# Altium footprint library LCCC.PcbLib: 1 footprints
Each footprint in its own frame and in the unit in brackets; x right, y up, seen from the top. Pads: shape width x height; smd on the part's side, far side on the other; paste and mask are expansions set on the pad; w line width, h text height; cw(c..) or ccw(c..) is an arc to the next point about the centre after c.
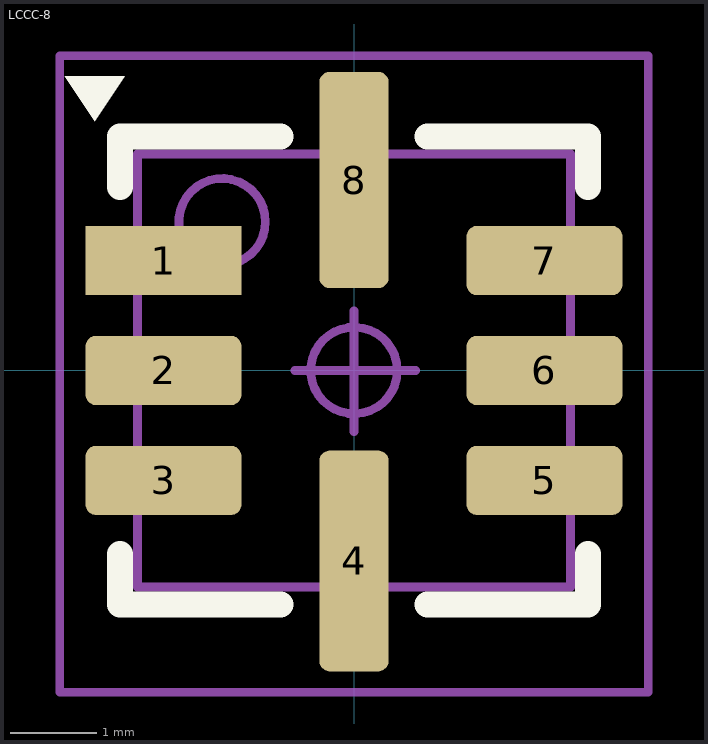
[diagram p0: the footprint, top view; thin cyan lines are the x and y axes]

## LCCC-8 [mm]
height 1.6
pads (8):
  rect 1.8x0.8 smd: 1(-2.2,1.27)
  rrect30% 1.8x0.8 smd: 2(-2.2,0) 3(-2.2,-1.27) 5(2.2,-1.27) 6(2.2,0) 7(2.2,1.27)
  rrect30% 0.8x2.55 smd: 4(0,-2.2)
  rrect30% 0.8x2.5 smd: 8(0,2.2)
Top Overlay:
  region: -2.648,3.4 -3.342,3.4 -2.995,2.879
  lines w0.3: -2.7,-2.12 -2.7,-2.7 -0.85,-2.7 ; -2.7,2.12 -2.7,2.7 -0.85,2.7 ; 0.85,-2.7 2.7,-2.7 2.7,-2.12 ; 0.85,2.7 2.7,2.7 2.7,2.12
Top Assembly:
  circle w0.1: c-1.523,1.718 r0.5
  lines w0.1: -2.5,-2.5 2.5,-2.5 2.5,2.5 -2.5,2.5 -2.5,-2.5
Top Component Outline:
  lines w0.1: -3.4,-3.715 -3.4,3.634 3.4,3.634 3.4,-3.715 -3.4,-3.715
Top Component Center:
  circle w0.1: c0,0 r0.5
  lines w0.1: -0.686,0 0.711,0 ; -0.001,-0.706 -0.001,0.691
3D body "LCCS127P500X500X160-8N.step": height 1.6, standoff 0, extent -2.575,-2.575 2.575,2.575